# Altium integrated library Atmel Microcontroller 32-Bit AVR UC3.IntLib: 109 symbols (part 15 of 15)
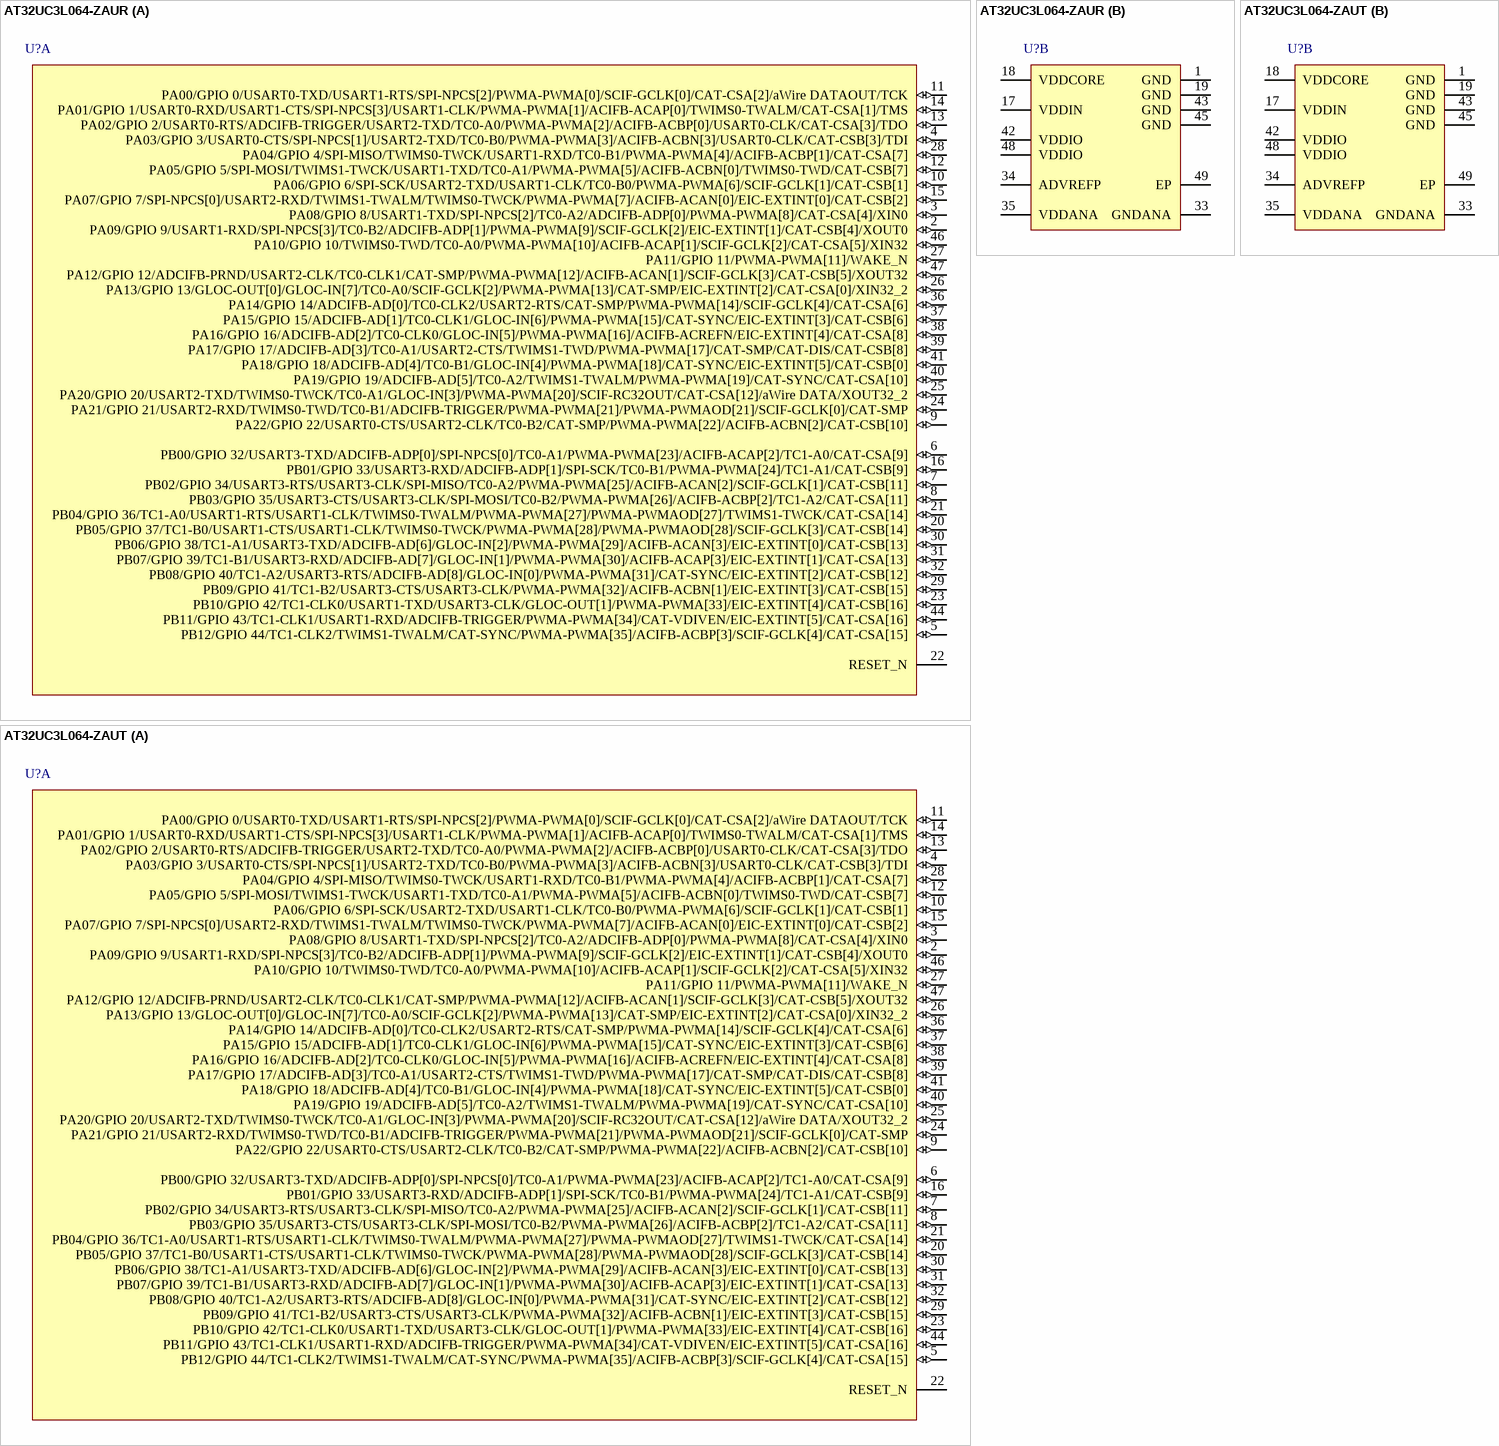
[diagram p84: symbols AT32UC3L064-ZAUR to AT32UC3L064-ZAUT]

## AT32UC3L064-ZAUT
designator U?
32-bit AVR UC3 Microcontroller, 64KB Flash, 16KB SRAM, 36 GPIO pins, Industrial Grade, 48-Pin QFN, Tray; Published: 1-Apr-2010; DatasheetVersion: revA, Jun-2009; PackageVersion: 2009; PackageReference: QFN-48; Publisher: Altium Limited; PackageDescription: 48-Pin Quad Flat No-Lead, 7 x 7 mm Body, 0.5 mm Pitch, Exposed Pad; Supplier 1: Digi-Key; Supplier Part Number 1: AT32UC3L064-ZAUT-ND; Supplier 2: Mouser; Supplier Part Number 2: 556-AT32UC3L064-ZAUT; Code_JEDEC: MO-220; ComponentLink1Description: Manufacturer Link; ComponentLink1URL: http://www.atmel.com/products/avr/default.asp?; ComponentLink2Description: AT32UC3L Datasheet; ComponentLink2URL: http://www.atmel.com/dyn/resources/prod_documents/doc32099.pdf; ComponentLink3Description: AT32UC3L Summary; ComponentLink3URL: http://www.atmel.com/dyn/resources/prod_documents/32099S.pdf; ComponentLink4Description: Atmel.com Home; ComponentLink4URL: http://www.atmel.com
footprint QFN-48_N (QFN, 48-Leads, Body 7x7mm, Pitch 0.5mm, IPC Medium Density)
footprint QFN-48_L (QFN, 48-Leads, Body 7x7mm, Pitch 0.5mm, IPC High Density)
footprint QFN-48_M (QFN, 48-Leads, Body 7x7mm, Pitch 0.5mm, IPC Low Density)
part A pins: 2 PA09/GPIO 9/USART1-RXD/SPI-NPCS[3]/TC0-B2/ADCIFB-ADP[1]/PWMA-PWMA[9]/SCIF-GCLK[2]/EIC-EXTINT[1]/CAT-CSB[4]/XOUT0 (io), 3 PA08/GPIO 8/USART1-TXD/SPI-NPCS[2]/TC0-A2/ADCIFB-ADP[0]/PWMA-PWMA[8]/CAT-CSA[4]/XIN0 (io), 4 PA03/GPIO 3/USART0-CTS/SPI-NPCS[1]/USART2-TXD/TC0-B0/PWMA-PWMA[3]/ACIFB-ACBN[3]/USART0-CLK/CAT-CSB[3]/TDI (io), 5 PB12/GPIO 44/TC1-CLK2/TWIMS1-TWALM/CAT-SYNC/PWMA-PWMA[35]/ACIFB-ACBP[3]/SCIF-GCLK[4]/CAT-CSA[15] (io), 6 PB00/GPIO 32/USART3-TXD/ADCIFB-ADP[0]/SPI-NPCS[0]/TC0-A1/PWMA-PWMA[23]/ACIFB-ACAP[2]/TC1-A0/CAT-CSA[9] (io), 7 PB02/GPIO 34/USART3-RTS/USART3-CLK/SPI-MISO/TC0-A2/PWMA-PWMA[25]/ACIFB-ACAN[2]/SCIF-GCLK[1]/CAT-CSB[11] (io), 8 PB03/GPIO 35/USART3-CTS/USART3-CLK/SPI-MOSI/TC0-B2/PWMA-PWMA[26]/ACIFB-ACBP[2]/TC1-A2/CAT-CSA[11] (io), 9 PA22/GPIO 22/USART0-CTS/USART2-CLK/TC0-B2/CAT-SMP/PWMA-PWMA[22]/ACIFB-ACBN[2]/CAT-CSB[10] (io), 10 PA06/GPIO 6/SPI-SCK/USART2-TXD/USART1-CLK/TC0-B0/PWMA-PWMA[6]/SCIF-GCLK[1]/CAT-CSB[1] (io), 11 PA00/GPIO 0/USART0-TXD/USART1-RTS/SPI-NPCS[2]/PWMA-PWMA[0]/SCIF-GCLK[0]/CAT-CSA[2]/aWire DATAOUT/TCK (io), 12 PA05/GPIO 5/SPI-MOSI/TWIMS1-TWCK/USART1-TXD/TC0-A1/PWMA-PWMA[5]/ACIFB-ACBN[0]/TWIMS0-TWD/CAT-CSB[7] (io), 13 PA02/GPIO 2/USART0-RTS/ADCIFB-TRIGGER/USART2-TXD/TC0-A0/PWMA-PWMA[2]/ACIFB-ACBP[0]/USART0-CLK/CAT-CSA[3]/TDO (io), 14 PA01/GPIO 1/USART0-RXD/USART1-CTS/SPI-NPCS[3]/USART1-CLK/PWMA-PWMA[1]/ACIFB-ACAP[0]/TWIMS0-TWALM/CAT-CSA[1]/TMS (io), 15 PA07/GPIO 7/SPI-NPCS[0]/USART2-RXD/TWIMS1-TWALM/TWIMS0-TWCK/PWMA-PWMA[7]/ACIFB-ACAN[0]/EIC-EXTINT[0]/CAT-CSB[2] (io), 16 PB01/GPIO 33/USART3-RXD/ADCIFB-ADP[1]/SPI-SCK/TC0-B1/PWMA-PWMA[24]/TC1-A1/CAT-CSB[9] (io), 20 PB05/GPIO 37/TC1-B0/USART1-CTS/USART1-CLK/TWIMS0-TWCK/PWMA-PWMA[28]/PWMA-PWMAOD[28]/SCIF-GCLK[3]/CAT-CSB[14] (io), 21 PB04/GPIO 36/TC1-A0/USART1-RTS/USART1-CLK/TWIMS0-TWALM/PWMA-PWMA[27]/PWMA-PWMAOD[27]/TWIMS1-TWCK/CAT-CSA[14] (io), 22 RESET_N (power), 23 PB10/GPIO 42/TC1-CLK0/USART1-TXD/USART3-CLK/GLOC-OUT[1]/PWMA-PWMA[33]/EIC-EXTINT[4]/CAT-CSB[16] (io), 24 PA21/GPIO 21/USART2-RXD/TWIMS0-TWD/TC0-B1/ADCIFB-TRIGGER/PWMA-PWMA[21]/PWMA-PWMAOD[21]/SCIF-GCLK[0]/CAT-SMP (io), 25 PA20/GPIO 20/USART2-TXD/TWIMS0-TWCK/TC0-A1/GLOC-IN[3]/PWMA-PWMA[20]/SCIF-RC32OUT/CAT-CSA[12]/aWire DATA/XOUT32_2 (io), 26 PA13/GPIO 13/GLOC-OUT[0]/GLOC-IN[7]/TC0-A0/SCIF-GCLK[2]/PWMA-PWMA[13]/CAT-SMP/EIC-EXTINT[2]/CAT-CSA[0]/XIN32_2 (io), 27 PA11/GPIO 11/PWMA-PWMA[11]/WAKE_N (io), 28 PA04/GPIO 4/SPI-MISO/TWIMS0-TWCK/USART1-RXD/TC0-B1/PWMA-PWMA[4]/ACIFB-ACBP[1]/CAT-CSA[7] (io), 29 PB09/GPIO 41/TC1-B2/USART3-CTS/USART3-CLK/PWMA-PWMA[32]/ACIFB-ACBN[1]/EIC-EXTINT[3]/CAT-CSB[15] (io), 30 PB06/GPIO 38/TC1-A1/USART3-TXD/ADCIFB-AD[6]/GLOC-IN[2]/PWMA-PWMA[29]/ACIFB-ACAN[3]/EIC-EXTINT[0]/CAT-CSB[13] (io), 31 PB07/GPIO 39/TC1-B1/USART3-RXD/ADCIFB-AD[7]/GLOC-IN[1]/PWMA-PWMA[30]/ACIFB-ACAP[3]/EIC-EXTINT[1]/CAT-CSA[13] (io), 32 PB08/GPIO 40/TC1-A2/USART3-RTS/ADCIFB-AD[8]/GLOC-IN[0]/PWMA-PWMA[31]/CAT-SYNC/EIC-EXTINT[2]/CAT-CSB[12] (io), 36 PA14/GPIO 14/ADCIFB-AD[0]/TC0-CLK2/USART2-RTS/CAT-SMP/PWMA-PWMA[14]/SCIF-GCLK[4]/CAT-CSA[6] (io), 37 PA15/GPIO 15/ADCIFB-AD[1]/TC0-CLK1/GLOC-IN[6]/PWMA-PWMA[15]/CAT-SYNC/EIC-EXTINT[3]/CAT-CSB[6] (io), 38 PA16/GPIO 16/ADCIFB-AD[2]/TC0-CLK0/GLOC-IN[5]/PWMA-PWMA[16]/ACIFB-ACREFN/EIC-EXTINT[4]/CAT-CSA[8] (io), 39 PA17/GPIO 17/ADCIFB-AD[3]/TC0-A1/USART2-CTS/TWIMS1-TWD/PWMA-PWMA[17]/CAT-SMP/CAT-DIS/CAT-CSB[8] (io), 40 PA19/GPIO 19/ADCIFB-AD[5]/TC0-A2/TWIMS1-TWALM/PWMA-PWMA[19]/CAT-SYNC/CAT-CSA[10] (io), 41 PA18/GPIO 18/ADCIFB-AD[4]/TC0-B1/GLOC-IN[4]/PWMA-PWMA[18]/CAT-SYNC/EIC-EXTINT[5]/CAT-CSB[0] (io), 44 PB11/GPIO 43/TC1-CLK1/USART1-RXD/ADCIFB-TRIGGER/PWMA-PWMA[34]/CAT-VDIVEN/EIC-EXTINT[5]/CAT-CSA[16] (io), 46 PA10/GPIO 10/TWIMS0-TWD/TC0-A0/PWMA-PWMA[10]/ACIFB-ACAP[1]/SCIF-GCLK[2]/CAT-CSA[5]/XIN32 (io), 47 PA12/GPIO 12/ADCIFB-PRND/USART2-CLK/TC0-CLK1/CAT-SMP/PWMA-PWMA[12]/ACIFB-ACAN[1]/SCIF-GCLK[3]/CAT-CSB[5]/XOUT32 (io)
part B pins: 1 GND (power), 17 VDDIN (power), 18 VDDCORE (power), 19 GND (power), 33 GNDANA (power), 34 ADVREFP (power), 35 VDDANA (power), 42 VDDIO (power), 43 GND (power), 45 GND (power), 48 VDDIO (power), 49 EP (power)